# EAGLE library part STM32F373V8H6 (library motor_controller)
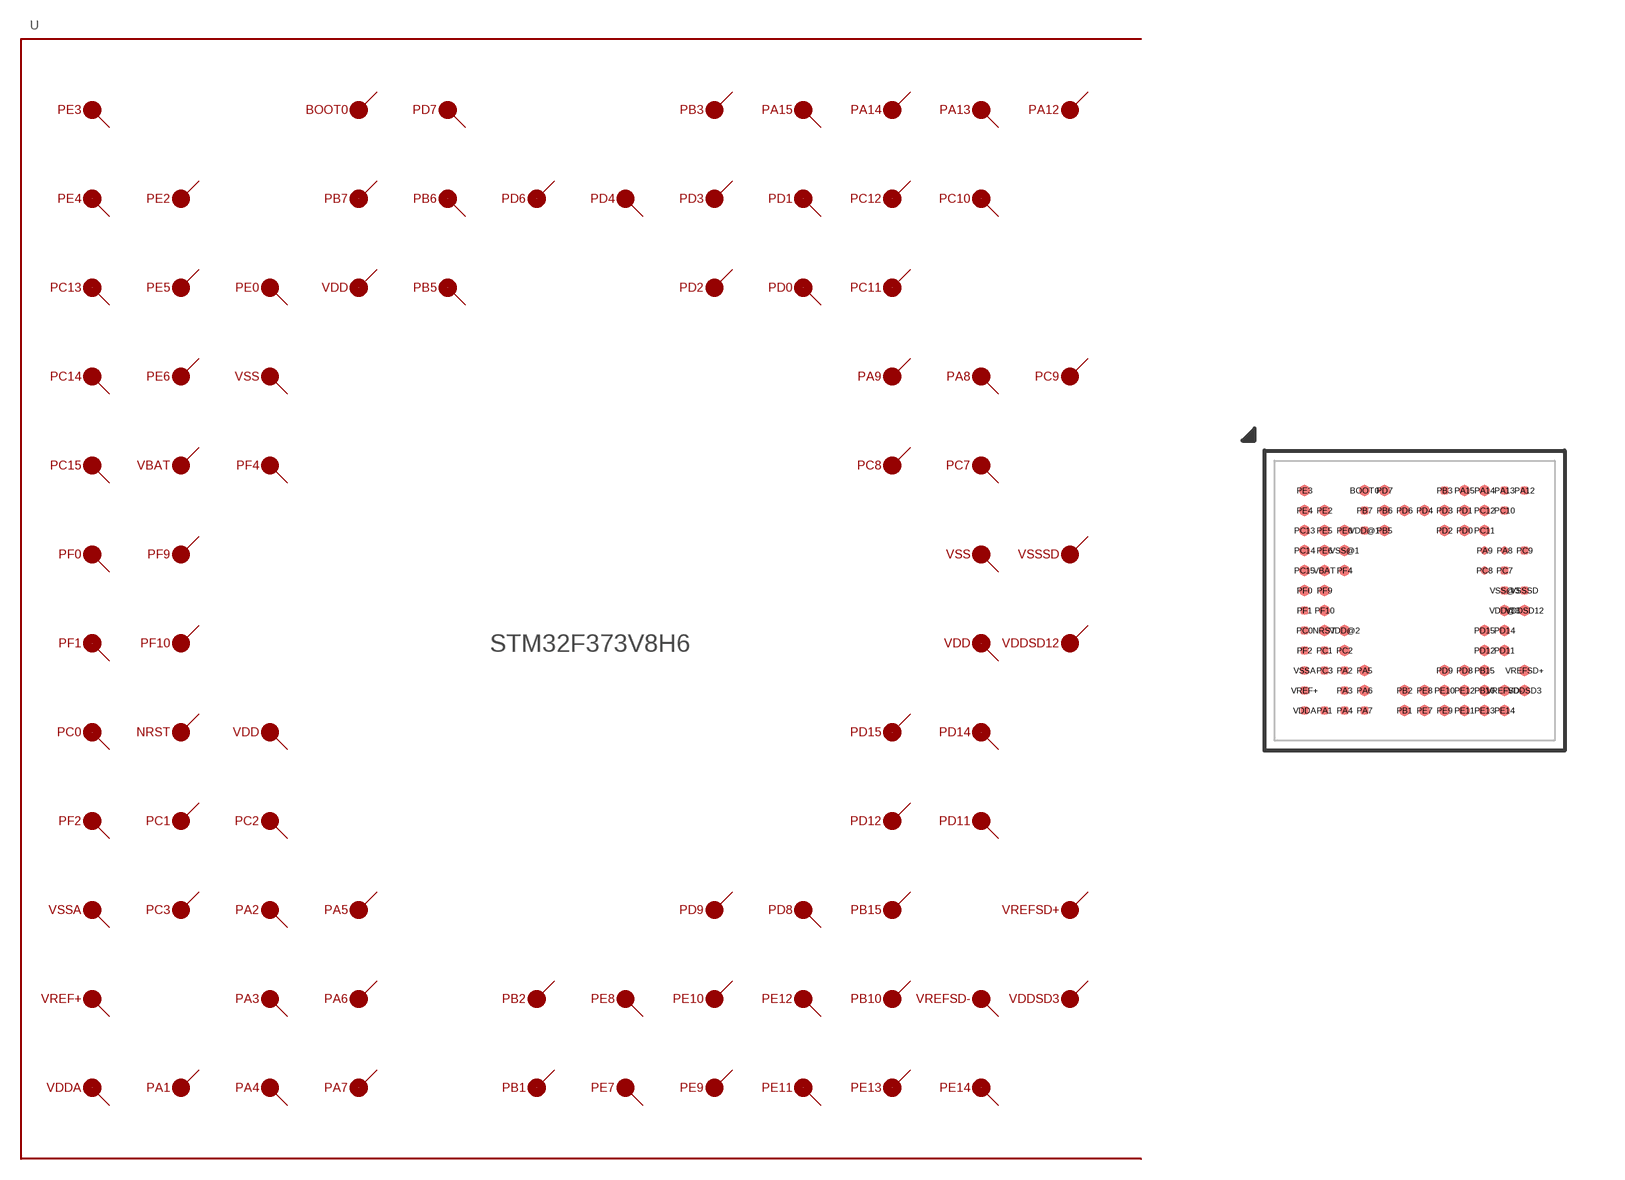
[diagram p6: symbol with the pads of STM32F373V8H6; footprint STM32F373V8H6]

Designator prefix U

## STM32F373V8H6 (DIGIKEY: 497-13300-ND; FARNELL: 2333278; MF: STMicroelectronics; MOUSER: 511-STM32F373V8H6; MPN: STM32F373V8H6; RS-ONLINE: 795-7613)  [STM32F373V8H6]
BOOT0  BOOT0
NRST  NRST
PA1  PA1
PA2  PA2
PA3  PA3
PA4  PA4
PA5  PA5
PA6  PA6
PA7  PA7
PA8  PA8
PA9  PA9
PA12  PA12
PA13  PA13
PA14  PA14
PA15  PA15
PB1  PB1
PB2  PB2
PB3  PB3
PB5  PB5
PB6  PB6
PB7  PB7
PB10  PB10
PB15  PB15
PC0  PC0
PC1  PC1
PC2  PC2
PC3  PC3
PC7  PC7
PC8  PC8
PC9  PC9
PC10  PC10
PC11  PC11
PC12  PC12
PC13  PC13
PC14  PC14
PC15  PC15
PD0  PD0
PD1  PD1
PD2  PD2
PD3  PD3
PD4  PD4
PD6  PD6
PD7  PD7
PD8  PD8
PD9  PD9
PD11  PD11
PD12  PD12
PD14  PD14
PD15  PD15
PE0  PE0
PE2  PE2
PE3  PE3
PE4  PE4
PE5  PE5
PE6  PE6
PE7  PE7
PE8  PE8
PE9  PE9
PE10  PE10
PE11  PE11
PE12  PE12
PE13  PE13
PE14  PE14
PF0  PF0
PF1  PF1
PF2  PF2
PF4  PF4
PF9  PF9
PF10  PF10
VBAT  VBAT
VDD@1  VDD
VDD@2  VDD
VDD@3  VDD
VDDA  VDDA
VDDSD3  VDDSD3
VDDSD12  VDDSD12
VREF+  VREF+
VREFSD+  VREFSD+
VREFSD-  VREFSD-
VSS@1  VSS
VSS@3  VSS
VSSA  VSSA
VSSSD  VSSSD

## Footprint STM32F373V8H6 (pad centres in mm)
smd 0.28 x 0.28: BOOT0 -1.25,2.75; NRST -2.25,-0.75; PA5 -1.25,-1.75; PA6 -1.25,-2.25; PA14 1.75,2.75; PA15 1.25,2.75; PB1 -0.25,-2.75; PB2 -0.25,-2.25; PB5 -0.75,1.75; PB6 -0.75,2.25; PB10 1.75,-2.25; PB15 1.75,-1.75; PC2 -1.75,-1.25; PC11 1.75,1.75; PC12 1.75,2.25; PC13 -2.75,1.75; PC14 -2.75,1.25; PC15 -2.75,0.75; PD0 1.25,1.75; PD1 1.25,2.25; PD2 0.75,1.75; PD3 0.75,2.25; PD4 0.25,2.25; PD6 -0.25,2.25; PD7 -0.75,2.75; PD8 1.25,-1.75; PD9 0.75,-1.75; PD11 2.25,-1.25; PD12 1.75,-1.25; PD14 2.25,-0.75; PD15 1.75,-0.75; PE0 -1.75,1.75; PE2 -2.25,2.25; PE3 -2.75,2.75; PE4 -2.75,2.25; PE5 -2.25,1.75; PE6 -2.25,1.25; PE7 0.25,-2.75; PE8 0.25,-2.25; PE9 0.75,-2.75; PE10 0.75,-2.25; PE11 1.25,-2.75; PE12 1.25,-2.25; PE13 1.75,-2.75; PE14 2.25,-2.75; PF0 -2.75,0.25; PF4 -1.75,0.75; PF9 -2.25,0.25; PF10 -2.25,-0.25; VBAT -2.25,0.75; VDD@2 -1.75,-0.75; VDD@3 2.25,-0.25; VDDSD3 2.75,-2.25; VDDSD12 2.75,-0.25; VREFSD+ 2.75,-1.75; VREFSD- 2.25,-2.25; VSS@1 -1.75,1.25
smd 0.195 x 0.195: PA1 -2.25,-2.75; PA2 -1.75,-1.75; PA3 -1.75,-2.25; PA4 -1.75,-2.75; PA7 -1.25,-2.75; PA8 2.25,1.25; PA9 1.75,1.25; PA12 2.75,2.75; PA13 2.25,2.75; PB3 0.75,2.75; PB7 -1.25,2.25; PC0 -2.75,-0.75; PC1 -2.25,-1.25; PC3 -2.25,-1.75; PC7 2.25,0.75; PC8 1.75,0.75; PC9 2.75,1.25; PC10 2.25,2.25; PF1 -2.75,-0.25; PF2 -2.75,-1.25; VDD@1 -1.25,1.75; VDDA -2.75,-2.75; VREF+ -2.75,-2.25; VSS@3 2.25,0.25; VSSA -2.75,-1.75; VSSSD 2.75,0.25